# Altium footprint library TQFN.PcbLib: 1 footprints
Each footprint in its own frame and in the unit in brackets; x right, y up, seen from the top. Pads: shape width x height; smd on the part's side, far side on the other; paste and mask are expansions set on the pad; w line width, h text height; cw(c..) or ccw(c..) is an arc to the next point about the centre after c.
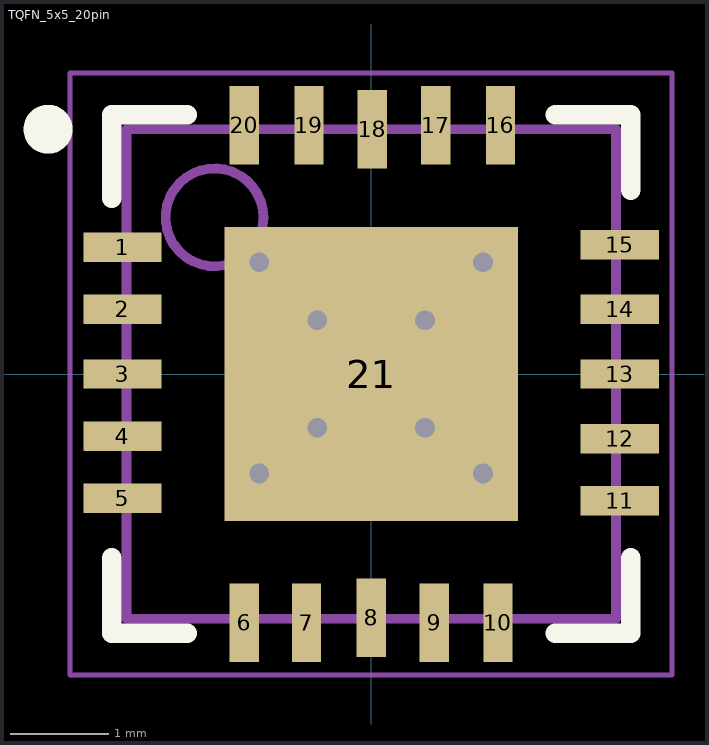
[diagram p0: the footprint, top view; thin cyan lines are the x and y axes]

## TQFN_5x5_20pin [mm] "QFN, 20-Leads, Body 5,00x5,00mm, Pitch 0,50mm, Thermal Pad 4,00x2,20mm, IPC Medium Density"
height 0.8
pads (21):
  rect 0.8x0.3 smd: 1(-2.54,1.295) 2(-2.54,0.66) 3(-2.54,0) 4(-2.54,-0.635) 5(-2.54,-1.27) 11(2.54,-1.295) 12(2.54,-0.66) 13(2.54,0) 14(2.54,0.66) 15(2.54,1.321)
  rect 0.3x0.8 smd: 6(-1.295,-2.54) 7(-0.66,-2.54) 8(0,-2.489) 9(0.646,-2.54) 10(1.295,-2.54) 16(1.321,2.54) 17(0.66,2.54) 18(0.011,2.5) 19(-0.635,2.54) 20(-1.295,2.54)
  rect 3x3 smd: 21(0,0)
via 1.143,1.143 diameter 0.5 hole 0.2
via -1.143,-1.016 diameter 0.5 hole 0.2
via 1.143,-1.016 diameter 0.5 hole 0.2
via -1.143,1.143 diameter 0.5 hole 0.2
via 0.55,-0.55 diameter 0.5 hole 0.2
via -0.55,-0.55 diameter 0.5 hole 0.2
via 0.55,0.55 diameter 0.5 hole 0.2
via -0.55,0.55 diameter 0.5 hole 0.2
Top Overlay:
  circle w0.25: c-3.3,2.5 r0.125
  lines w0.2: -2.65,-1.88 -2.65,-2.65 -1.88,-2.65 ; -2.65,1.795 -2.65,2.65 -1.88,2.65 ; 1.88,-2.65 2.65,-2.65 2.65,-1.88 ; 1.88,2.65 2.65,2.65 2.65,1.88
Mechanical 13:
  circle w0.1: c-1.6,1.6 r0.5
  lines w0.1: -2.5,-2.5 2.5,-2.5 2.5,2.5 -2.5,2.5 -2.5,-2.5
Mechanical 15:
  lines w0.05: -3.075,-3.075 3.075,-3.075 3.075,3.075 -3.075,3.075 -3.075,-3.075
  lines w0.1: -0.5,0 0.5,0 ; 0,-0.5 0,0.5
3D body "TQFN20.step": height 0.76, standoff 0.01, extent -2.51,-2.51 2.51,2.51